# EAGLE library part CAP_4PACK (library LBRmicrobuilder)
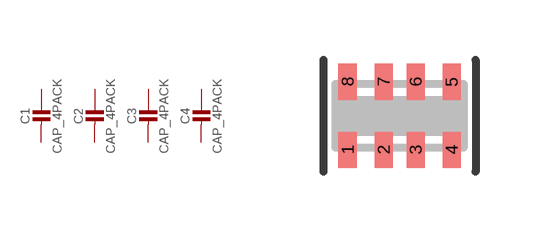
[diagram p0: symbol with the pads of RESPACK_4X0603; footprint RESPACK_4X0603]

Designator prefix C; gates 1=CAPACITOR 2=CAPACITOR 3=CAPACITOR 4=CAPACITOR

## CAP_4PACK1206  [RESPACK_4X0603]
1  1:1  pas
2  2:1  pas
3  3:1  pas
4  4:1  pas
5  4:2  pas
6  3:2  pas
7  2:2  pas
8  1:2  pas

## Footprint RESPACK_4X0603 (pad centres in mm)
smd 0.45 x 0.9: 1 -1.3,-0.85; 2 -0.4,-0.85; 3 0.4,-0.85; 4 1.3,-0.85; 5 1.3,0.85; 6 0.4,0.85; 7 -0.4,0.85; 8 -1.3,0.85